# Altium footprint library LM317.PcbLib: 1 footprints
Each footprint in its own frame and in the unit in brackets; x right, y up, seen from the top. Pads: shape width x height; smd on the part's side, far side on the other; paste and mask are expansions set on the pad; w line width, h text height; cw(c..) or ccw(c..) is an arc to the next point about the centre after c.
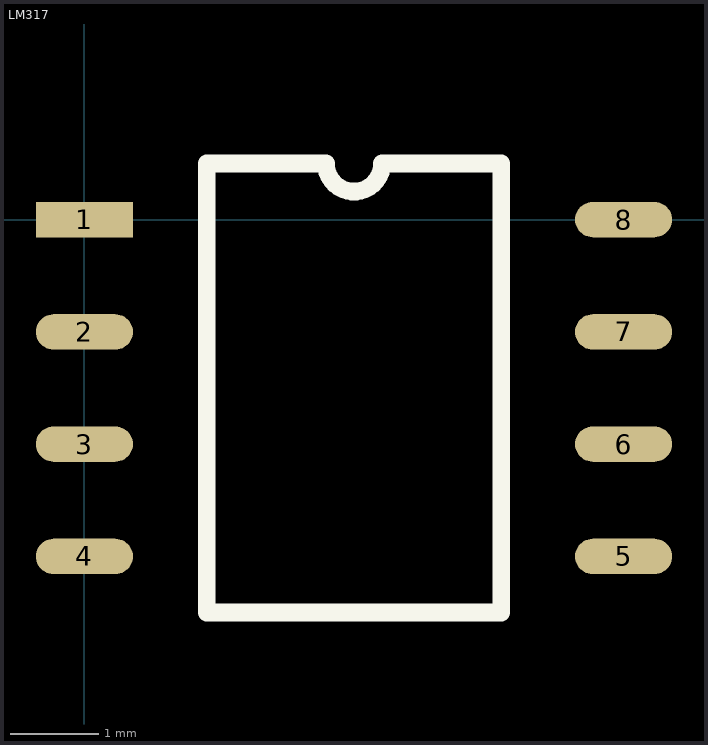
[diagram p0: the footprint, top view; thin cyan lines are the x and y axes]

## LM317 [mm]
pads (8):
  rect 1.1x0.4 smd: 1(0,0)
  oval 1.1x0.4 smd: 2(0,-1.27) 3(0,-2.54) 4(0,-3.81) 5(6.1,-3.81) 6(6.1,-2.54) 7(6.1,-1.27) 8(6.1,0)
Top Overlay:
  lines w0.2: 1.385,-4.445 1.385,0.635 2.732,0.635 ccw(c3.05,0.635) 3.367,0.635 4.715,0.635 4.715,-4.445 1.385,-4.445